# EAGLE library part AY-3-8912_24PIN (library 8Bit_Parts)
Dual In Line
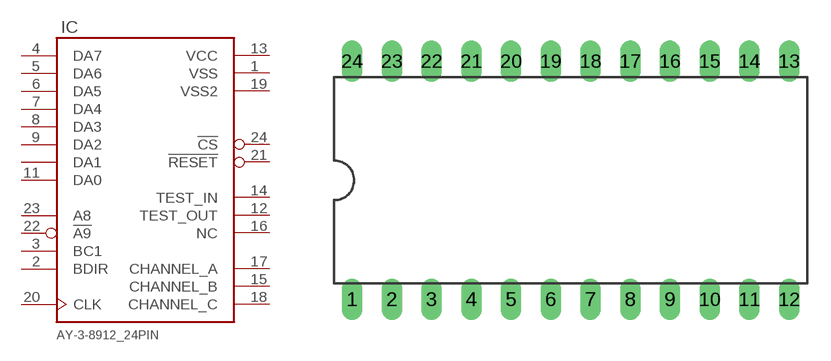
[diagram p5: symbol with the pads of DIL24-6; footprint DIL24-6]

Designator prefix IC

## AY-3-8912_24PIN-6  [DIL24-6]
1  VSS  pwr
2  BDIR  in
3  BC1  in
4  DA7
5  DA6
6  DA5
7  DA4
8  DA3
9  DA2
10  DA1
11  DA0
12  TEST_OUT  nc
13  VCC  pwr
14  TEST_IN  nc
15  CHANNEL_B  out
16  NC  nc
17  CHANNEL_A  out
18  CHANNEL_C  out
19  VSS2  pwr
20  CLK  in
21  !RESET  in
22  !A9  in
23  A8  in
24  !CS  in

## Footprint DIL24-6 (pad centres in mm)
Dual In Line Package 0.6 inch
drill 0.813 long: 1 -13.97,-7.62; 2 -11.43,-7.62; 3 -8.89,-7.62; 4 -6.35,-7.62; 5 -3.81,-7.62; 6 -1.27,-7.62; 7 1.27,-7.62; 8 3.81,-7.62; 9 6.35,-7.62; 10 8.89,-7.62; 11 11.43,-7.62; 12 13.97,-7.62; 13 13.97,7.62; 14 11.43,7.62; 15 8.89,7.62; 16 6.35,7.62; 17 3.81,7.62; 18 1.27,7.62; 19 -1.27,7.62; 20 -3.81,7.62; 21 -6.35,7.62; 22 -8.89,7.62; 23 -11.43,7.62; 24 -13.97,7.62